# EAGLE library part BENS_LIBRARY_1X12_PCB_SOCKET (library BBB_ADS1271_front_panel)
CONN SOCKET, 2.54MM, SMT, 1X12WAY
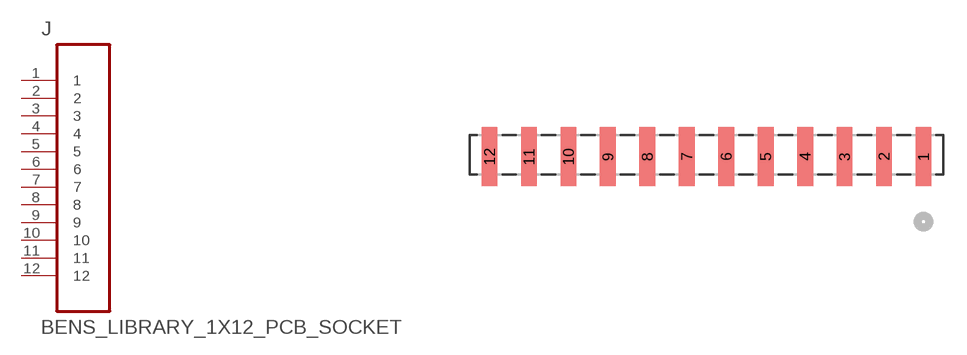
[diagram p0: symbol with the pads of BENS_LIBRARY_SAMTEC_SSM-112-L-DV-BE; footprint BENS_LIBRARY_SAMTEC_SSM-112-L-DV-BE]

Designator prefix J

## BENS_LIBRARY_1X12_PCB_SOCKET (MPN: SSM-112-L-DV-BE; OC_FARNELL: -; OC_NEWARK: 81P5226; PACKAGE: SOCKET, 2.54MM, SMT, 2X12WAY; SUPPLIER: SAMTEC)  [BENS_LIBRARY_SAMTEC_SSM-112-L-DV-BE]
1  1  pas
2  2  pas
3  3  pas
4  4  pas
5  5  pas
6  6  pas
7  7  pas
8  8  pas
9  9  pas
10  10  pas
11  11  pas
12  12  pas

## Footprint BENS_LIBRARY_SAMTEC_SSM-112-L-DV-BE (pad centres in mm)
smd 1.016 x 3.81: 1 27.94,0; 2 25.4,0; 3 22.86,0; 4 20.32,0; 5 17.78,0; 6 15.24,0; 7 12.7,0; 8 10.16,0; 9 7.62,0; 10 5.08,0; 11 2.54,0; 12 0,0